# EAGLE library part NINA-W102 (library NINA_W102)
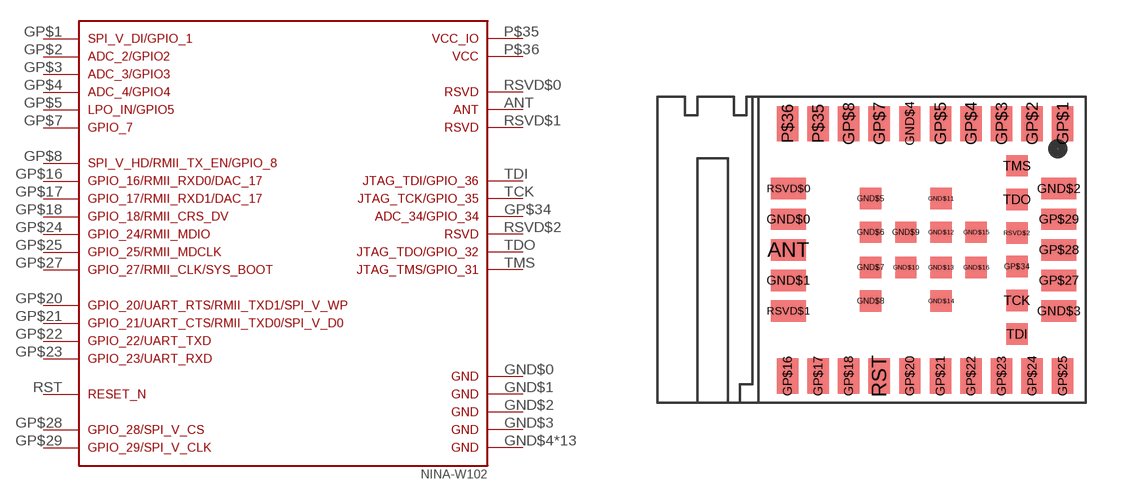
[diagram p0: symbol with the pads of NINA-W102; footprint NINA-W102]

Designator prefix -

## NINA-W102  [NINA-W102]
ANT  ANT
GND$0  GND$0
GND$1  GND$1
GND$2  GND$2
GND$3  GND$3
GND$4  GND$4
GND$5  GND$4
GND$6  GND$4
GND$7  GND$4
GND$8  GND$4
GND$9  GND$4
GND$10  GND$4
GND$11  GND$4
GND$12  GND$4
GND$13  GND$4
GND$14  GND$4
GND$15  GND$4
GND$16  GND$4
GP$1  GP$1
GP$2  GP$2
GP$3  GP$3
GP$4  GP$4
GP$5  GP$5
GP$7  GP$7
GP$8  GP$8
GP$16  GP$16
GP$17  GP$17
GP$18  GP$18
GP$20  GP$20
GP$21  GP$21
GP$22  GP$22
GP$23  GP$23
GP$24  GP$24
GP$25  GP$25
GP$27  GP$27
GP$28  P$28
GP$29  P$29
GP$34  GP$34
P$35  VCCIO
P$36  VCC
RST  RST
RSVD$0  RSVD$0
RSVD$1  RSVD$1
RSVD$2  RSVD$2
TCK  TCK
TDI  TDI
TDO  TDO
TMS  TMS

## Footprint NINA-W102 (pad centres in mm)
smd 1.15 x 0.7: ANT -4.625,0; GND$0 -4.625,1; GND$1 -4.625,-1; GND$2 4.225,2; GND$3 4.225,-2; GP$27 4.225,-1; GP$28 4.225,0; GP$29 4.225,1; RSVD$0 -4.625,2; RSVD$1 -4.625,-2
smd 0.7 x 1.15: GND$4 -0.65,4.125; GP$1 4.35,4.125; GP$2 3.35,4.125; GP$3 2.35,4.125; GP$4 1.35,4.125; GP$5 0.35,4.125; GP$7 -1.65,4.125; GP$8 -2.65,4.125; GP$16 -4.65,-4.125; GP$17 -3.65,-4.125; GP$18 -2.65,-4.125; GP$20 -0.65,-4.125; GP$21 0.35,-4.125; GP$22 1.35,-4.125; GP$23 2.35,-4.125; GP$24 3.35,-4.125; GP$25 4.35,-4.125; P$35 -3.65,4.125; P$36 -4.65,4.125; RST -1.65,-4.125
smd 0.7 x 0.7: GND$5 -1.93,1.675; GND$6 -1.93,0.575; GND$7 -1.93,-0.575; GND$8 -1.93,-1.675; GND$9 -0.78,0.575; GND$10 -0.78,-0.575; GND$11 0.37,1.675; GND$12 0.37,0.575; GND$13 0.37,-0.575; GND$14 0.37,-1.675; GND$15 1.52,0.575; GND$16 1.52,-0.575; GP$34 2.85,-0.55; RSVD$2 2.85,0.55; TCK 2.85,-1.65; TDI 2.85,-2.75; TDO 2.85,1.65; TMS 2.85,2.75